# Altium schematic symbol library SHTxx.SchLib: 1 symbol
Pins are listed as number, name and electrical type; pins without a type are passive.

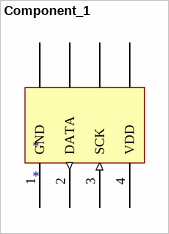
[diagram p0: symbol Component_1]

## Component_1
designator *
footprint SOIC127P660X265-8N (SOIC, 8-Leads, Body 7,47x3,40mm, Pitch 1,27mm, IPC Medium Density)
pins: 1 GND (power), 2 DATA (out), 3 SCK (in), 4 VDD (power), 5, 6, 7, 8